# Altium integrated library WE-PDHV_rev15a.intlib: 18 symbols
Pins are listed as number, name and electrical type; pins without a type are passive.

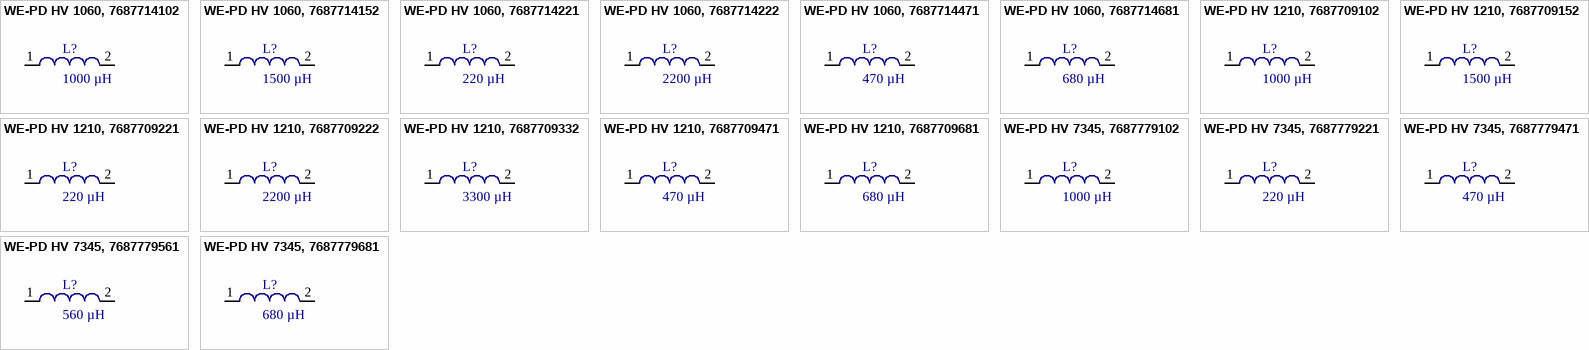
[diagram p0: symbols WE-PD HV 1060, 7687714102 to WE-PD HV 7345, 7687779681]

## WE-PD HV 1060, 7687714102
designator L?, comment 1000 µH
SMD Power Inductor WE-PD HV, L=1000 µH; PartNo: 7687714102; Manufacturer: Würth Elektronik eiSos GmbH; Inductance: 1000 µH; ComponentLink1Description: Manufacturer; ComponentLink1URL: http://www.we-online.de; Created by: Christin Otto; Created Date: DEC-2013; ComponentLink2Description: Datasheet; ComponentLink2URL: http://www.we-online.de/katalog/media/pdf/7687714102.pdf
footprint 1060 (Precision Wire Wound Inductor, 2-Leads, Body 10.0x10.0mm, IPC Medium Density)
pins: 1, 2

## WE-PD HV 1060, 7687714152
designator L?, comment 1500 µH
SMD Power Inductor WE-PD HV, L=1500 µH; PartNo: 7687714152; Manufacturer: Würth Elektronik eiSos GmbH; Inductance: 1500 µH; ComponentLink1Description: Manufacturer; ComponentLink1URL: http://www.we-online.de; Created by: Christin Otto; Created Date: DEC-2013; ComponentLink2Description: Datasheet; ComponentLink2URL: http://www.we-online.de/katalog/media/pdf/7687714152.pdf
footprint 1060 (Precision Wire Wound Inductor, 2-Leads, Body 10.0x10.0mm, IPC Medium Density)
pins: 1, 2

## WE-PD HV 1060, 7687714221
designator L?, comment 220 µH
SMD Power Inductor WE-PD HV, L=220 µH; PartNo: 7687714221; Manufacturer: Würth Elektronik eiSos GmbH; Inductance: 220 µH; ComponentLink1Description: Manufacturer; ComponentLink1URL: http://www.we-online.de; Created by: Christin Otto; Created Date: DEC-2013; ComponentLink2Description: Datasheet; ComponentLink2URL: http://www.we-online.de/katalog/media/pdf/7687714221.pdf
footprint 1060 (Precision Wire Wound Inductor, 2-Leads, Body 10.0x10.0mm, IPC Medium Density)
pins: 1, 2

## WE-PD HV 1060, 7687714222
designator L?, comment 2200 µH
SMD Power Inductor WE-PD HV, L=2200 µH; PartNo: 7687714222; Manufacturer: Würth Elektronik eiSos GmbH; Inductance: 2200 µH; ComponentLink1Description: Manufacturer; ComponentLink1URL: http://www.we-online.de; Created by: Christin Otto; Created Date: DEC-2013; ComponentLink2Description: Datasheet; ComponentLink2URL: http://www.we-online.de/katalog/media/pdf/7687714222.pdf
footprint 1060 (Precision Wire Wound Inductor, 2-Leads, Body 10.0x10.0mm, IPC Medium Density)
pins: 1, 2

## WE-PD HV 1060, 7687714471
designator L?, comment 470 µH
SMD Power Inductor WE-PD HV, L=470 µH; PartNo: 7687714471; Manufacturer: Würth Elektronik eiSos GmbH; Inductance: 470 µH; ComponentLink1Description: Manufacturer; ComponentLink1URL: http://www.we-online.de; Created by: Christin Otto; Created Date: DEC-2013; ComponentLink2Description: Datasheet; ComponentLink2URL: http://www.we-online.de/katalog/media/pdf/7687714471.pdf
footprint 1060 (Precision Wire Wound Inductor, 2-Leads, Body 10.0x10.0mm, IPC Medium Density)
pins: 1, 2

## WE-PD HV 1060, 7687714681
designator L?, comment 680 µH
SMD Power Inductor WE-PD HV, L=680 µH; PartNo: 7687714681; Manufacturer: Würth Elektronik eiSos GmbH; Inductance: 680 µH; ComponentLink1Description: Manufacturer; ComponentLink1URL: http://www.we-online.de; Created by: Christin Otto; Created Date: DEC-2013; ComponentLink2Description: Datasheet; ComponentLink2URL: http://www.we-online.de/katalog/media/pdf/7687714681.pdf
footprint 1060 (Precision Wire Wound Inductor, 2-Leads, Body 10.0x10.0mm, IPC Medium Density)
pins: 1, 2

## WE-PD HV 1210, 7687709102
designator L?, comment 1000 µH
SMD Power Inductor WE-PD HV, L=1000 µH; PartNo: 7687709102; Manufacturer: Würth Elektronik eiSos GmbH; Inductance: 1000 µH; ComponentLink1Description: Manufacturer; ComponentLink1URL: http://www.we-online.de; Created by: Christin Otto; Created Date: DEC-2013; ComponentLink2Description: Datasheet; ComponentLink2URL: http://www.we-online.de/katalog/media/pdf/7687709102.pdf
footprint 1210 (Precision Wire Wound Inductor, 2-Leads, Body 12.0x12.0mm, IPC Medium Density)
pins: 1, 2

## WE-PD HV 1210, 7687709152
designator L?, comment 1500 µH
SMD Power Inductor WE-PD HV, L=1500 µH; PartNo: 7687709152; Manufacturer: Würth Elektronik eiSos GmbH; Inductance: 1500 µH; ComponentLink1Description: Manufacturer; ComponentLink1URL: http://www.we-online.de; Created by: Christin Otto; Created Date: DEC-2013; ComponentLink2Description: Datasheet; ComponentLink2URL: http://www.we-online.de/katalog/media/pdf/7687709152.pdf
footprint 1210 (Precision Wire Wound Inductor, 2-Leads, Body 12.0x12.0mm, IPC Medium Density)
pins: 1, 2

## WE-PD HV 1210, 7687709221
designator L?, comment 220 µH
SMD Power Inductor WE-PD HV, L=220 µH; PartNo: 7687709221; Manufacturer: Würth Elektronik eiSos GmbH; Inductance: 220 µH; ComponentLink1Description: Manufacturer; ComponentLink1URL: http://www.we-online.de; Created by: Christin Otto; Created Date: DEC-2013; ComponentLink2Description: Datasheet; ComponentLink2URL: http://www.we-online.de/katalog/media/pdf/7687709221.pdf
footprint 1210 (Precision Wire Wound Inductor, 2-Leads, Body 12.0x12.0mm, IPC Medium Density)
pins: 1, 2

## WE-PD HV 1210, 7687709222
designator L?, comment 2200 µH
SMD Power Inductor WE-PD HV, L=2200 µH; PartNo: 7687709222; Manufacturer: Würth Elektronik eiSos GmbH; Inductance: 2200 µH; ComponentLink1Description: Manufacturer; ComponentLink1URL: http://www.we-online.de; Created by: Christin Otto; Created Date: DEC-2013; ComponentLink2Description: Datasheet; ComponentLink2URL: http://www.we-online.de/katalog/media/pdf/7687709222.pdf
footprint 1210 (Precision Wire Wound Inductor, 2-Leads, Body 12.0x12.0mm, IPC Medium Density)
pins: 1, 2

## WE-PD HV 1210, 7687709332
designator L?, comment 3300 µH
SMD Power Inductor WE-PD HV, L=3300 µH; PartNo: 7687709332; Manufacturer: Würth Elektronik eiSos GmbH; Inductance: 3300 µH; ComponentLink1Description: Manufacturer; ComponentLink1URL: http://www.we-online.de; Created by: Christin Otto; Created Date: DEC-2013; ComponentLink2Description: Datasheet; ComponentLink2URL: http://www.we-online.de/katalog/media/pdf/ 7687709332.pdf
footprint 1210 (Precision Wire Wound Inductor, 2-Leads, Body 12.0x12.0mm, IPC Medium Density)
pins: 1, 2

## WE-PD HV 1210, 7687709471
designator L?, comment 470 µH
SMD Power Inductor WE-PD HV, L=470 µH; PartNo: 7687709471; Manufacturer: Würth Elektronik eiSos GmbH; Inductance: 470 µH; ComponentLink1Description: Manufacturer; ComponentLink1URL: http://www.we-online.de; Created by: Christin Otto; Created Date: DEC-2013; ComponentLink2Description: Datasheet; ComponentLink2URL: http://www.we-online.de/katalog/media/pdf/7687709471.pdf
footprint 1210 (Precision Wire Wound Inductor, 2-Leads, Body 12.0x12.0mm, IPC Medium Density)
pins: 1, 2

## WE-PD HV 1210, 7687709681
designator L?, comment 680 µH
SMD Power Inductor WE-PD HV, L=680 µH; PartNo: 7687709681; Manufacturer: Würth Elektronik eiSos GmbH; Inductance: 680 µH; ComponentLink1Description: Manufacturer; ComponentLink1URL: http://www.we-online.de; Created by: Christin Otto; Created Date: DEC-2013; ComponentLink2Description: Datasheet; ComponentLink2URL: http://www.we-online.de/katalog/media/pdf/7687709681.pdf
footprint 1210 (Precision Wire Wound Inductor, 2-Leads, Body 12.0x12.0mm, IPC Medium Density)
pins: 1, 2

## WE-PD HV 7345, 7687779102
designator L?, comment 1000 µH
SMD Power Inductor WE-PD HV, L=1000 µH; PartNo: 7687779102; Manufacturer: Würth Elektronik eiSos GmbH; Inductance: 1000 µH; ComponentLink1Description: Manufacturer; ComponentLink1URL: http://www.we-online.de; Created by: Christin Otto; Created Date: DEC-2013; ComponentLink2Description: Datasheet; ComponentLink2URL: http://www.we-online.de/katalog/media/pdf/7687779102.pdf
footprint 7345 (Precision Wire Wound Inductor, 2-Leads, Body 7.3x7.3mm, IPC Medium Density)
pins: 1, 2

## WE-PD HV 7345, 7687779221
designator L?, comment 220 µH
SMD Power Inductor WE-PD HV, L=220 µH; PartNo: 7687779221; Manufacturer: Würth Elektronik eiSos GmbH; Inductance: 220 µH; ComponentLink1Description: Manufacturer; ComponentLink1URL: http://www.we-online.de; Created by: Christin Otto; Created Date: DEC-2013; ComponentLink2Description: Datasheet; ComponentLink2URL: http://www.we-online.de/katalog/media/pdf/7687779221.pdf
footprint 7345 (Precision Wire Wound Inductor, 2-Leads, Body 7.3x7.3mm, IPC Medium Density)
pins: 1, 2

## WE-PD HV 7345, 7687779471
designator L?, comment 470 µH
SMD Power Inductor WE-PD HV, L=470 µH; PartNo: 7687779471; Manufacturer: Würth Elektronik eiSos GmbH; Inductance: 470 µH; ComponentLink1Description: Manufacturer; ComponentLink1URL: http://www.we-online.de; Created by: Christin Otto; Created Date: DEC-2013; ComponentLink2Description: Datasheet; ComponentLink2URL: http://www.we-online.de/katalog/media/pdf/7687779471.pdf
footprint 7345 (Precision Wire Wound Inductor, 2-Leads, Body 7.3x7.3mm, IPC Medium Density)
pins: 1, 2

## WE-PD HV 7345, 7687779561
designator L?, comment 560 µH
SMD Power Inductor WE-PD HV, L=560 µH; PartNo: 7687779561; Manufacturer: Würth Elektronik eiSos GmbH; Inductance: 560 µH; ComponentLink1Description: Manufacturer; ComponentLink1URL: http://www.we-online.de; Created by: Christin Otto; Created Date: DEC-2013; ComponentLink2Description: Datasheet; ComponentLink2URL: http://www.we-online.de/katalog/media/pdf/7687779561.pdf
footprint 7345 (Precision Wire Wound Inductor, 2-Leads, Body 7.3x7.3mm, IPC Medium Density)
pins: 1, 2

## WE-PD HV 7345, 7687779681
designator L?, comment 680 µH
SMD Power Inductor WE-PD HV, L=680 µH; PartNo: 7687779681; Manufacturer: Würth Elektronik eiSos GmbH; Inductance: 680 µH; ComponentLink1Description: Manufacturer; ComponentLink1URL: http://www.we-online.de; Created by: Christin Otto; Created Date: DEC-2013; ComponentLink2Description: Datasheet; ComponentLink2URL: http://www.we-online.de/katalog/media/pdf/7687779681.pdf
footprint 7345 (Precision Wire Wound Inductor, 2-Leads, Body 7.3x7.3mm, IPC Medium Density)
pins: 1, 2